# EAGLE library part IMU-BUCHSE-IN (library IMU-Buchse)
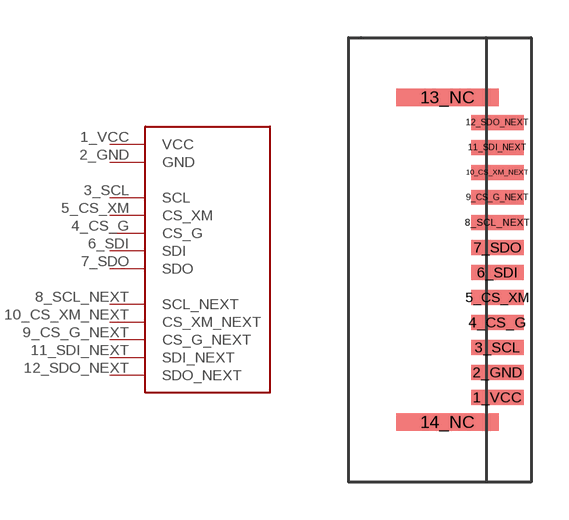
[diagram p1: symbol with the pads of IN; footprint IN]

Designator prefix -

## IMU-BUCHSE-IN  [IN]
1_VCC  VCC
2_GND  GND
3_SCL  SCL
4_CS_G  CS_G
5_CS_XM  CS_XM
6_SDI  SDI
7_SDO  SDO
8_SCL_NEXT  SCL_NEXT
9_CS_G_NEXT  CS_G_NEXT
10_CS_XM_NEXT  CS_XM_NEXT
11_SDI_NEXT  SDI_NEXT
12_SDO_NEXT  SDO_NEXT

## Footprint IN (pad centres in mm)
smd 2.1 x 0.6: 1_VCC 2.3,-5.5; 2_GND 2.3,-4.5; 3_SCL 2.3,-3.5; 4_CS_G 2.3,-2.5; 5_CS_XM 2.3,-1.5; 6_SDI 2.3,-0.5; 7_SDO 2.3,0.5; 8_SCL_NEXT 2.3,1.5; 9_CS_G_NEXT 2.3,2.5; 10_CS_XM_NEXT 2.3,3.5; 11_SDI_NEXT 2.3,4.5; 12_SDO_NEXT 2.3,5.5
smd 4.1 x 0.7: 13_NC 0.3,6.5; 14_NC 0.3,-6.5